# EAGLE library part MOLEX_104031-0811 (library MOLEX MICRO SD [exposed pins])
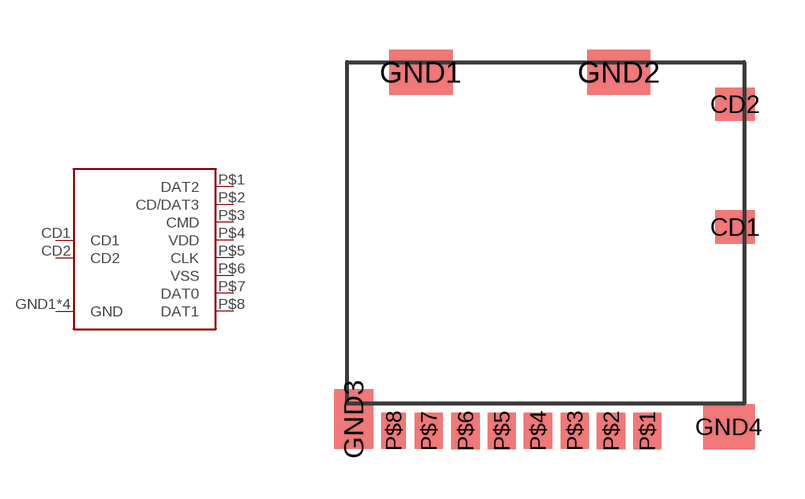
[diagram p0: symbol with the pads of MOLEX_MICROSD_EXPOSED; footprint MOLEX_MICROSD_EXPOSED]

Designator prefix -

## MOLEX_104031-0811  [MOLEX_MICROSD_EXPOSED]
CD1  CD1
CD2  CD2
GND1  GND
GND2  GND
GND3  GND
GND4  GND
P$1  DAT2
P$2  CD/DAT3
P$3  CMD
P$4  VDD
P$5  CLK
P$6  VSS
P$7  DAT0
P$8  DAT1

## Footprint MOLEX_MICROSD_EXPOSED (pad centres in mm)
smd 1.195 x 1.005: CD1 5.349,0.435; CD2 5.349,4.135
smd 1.907 x 1.348: GND1 -4.112,5.104; GND2 1.853,5.104
smd 1.17 x 1.793: GND3 -6.134,-5.352
smd 1.551 x 1.348: GND4 5.167,-5.577
smd 0.851 x 1.092: P$1 2.707,-5.703; P$2 1.617,-5.703; P$3 0.522,-5.699; P$4 -0.586,-5.701; P$5 -1.676,-5.703; P$6 -2.769,-5.703; P$7 -3.875,-5.701
smd 0.749 x 1.092: P$8 -4.935,-5.701